# Altium schematic symbol library pporyzala-TI_Lighting.SchLib: 745 symbols (part 27 of 48)
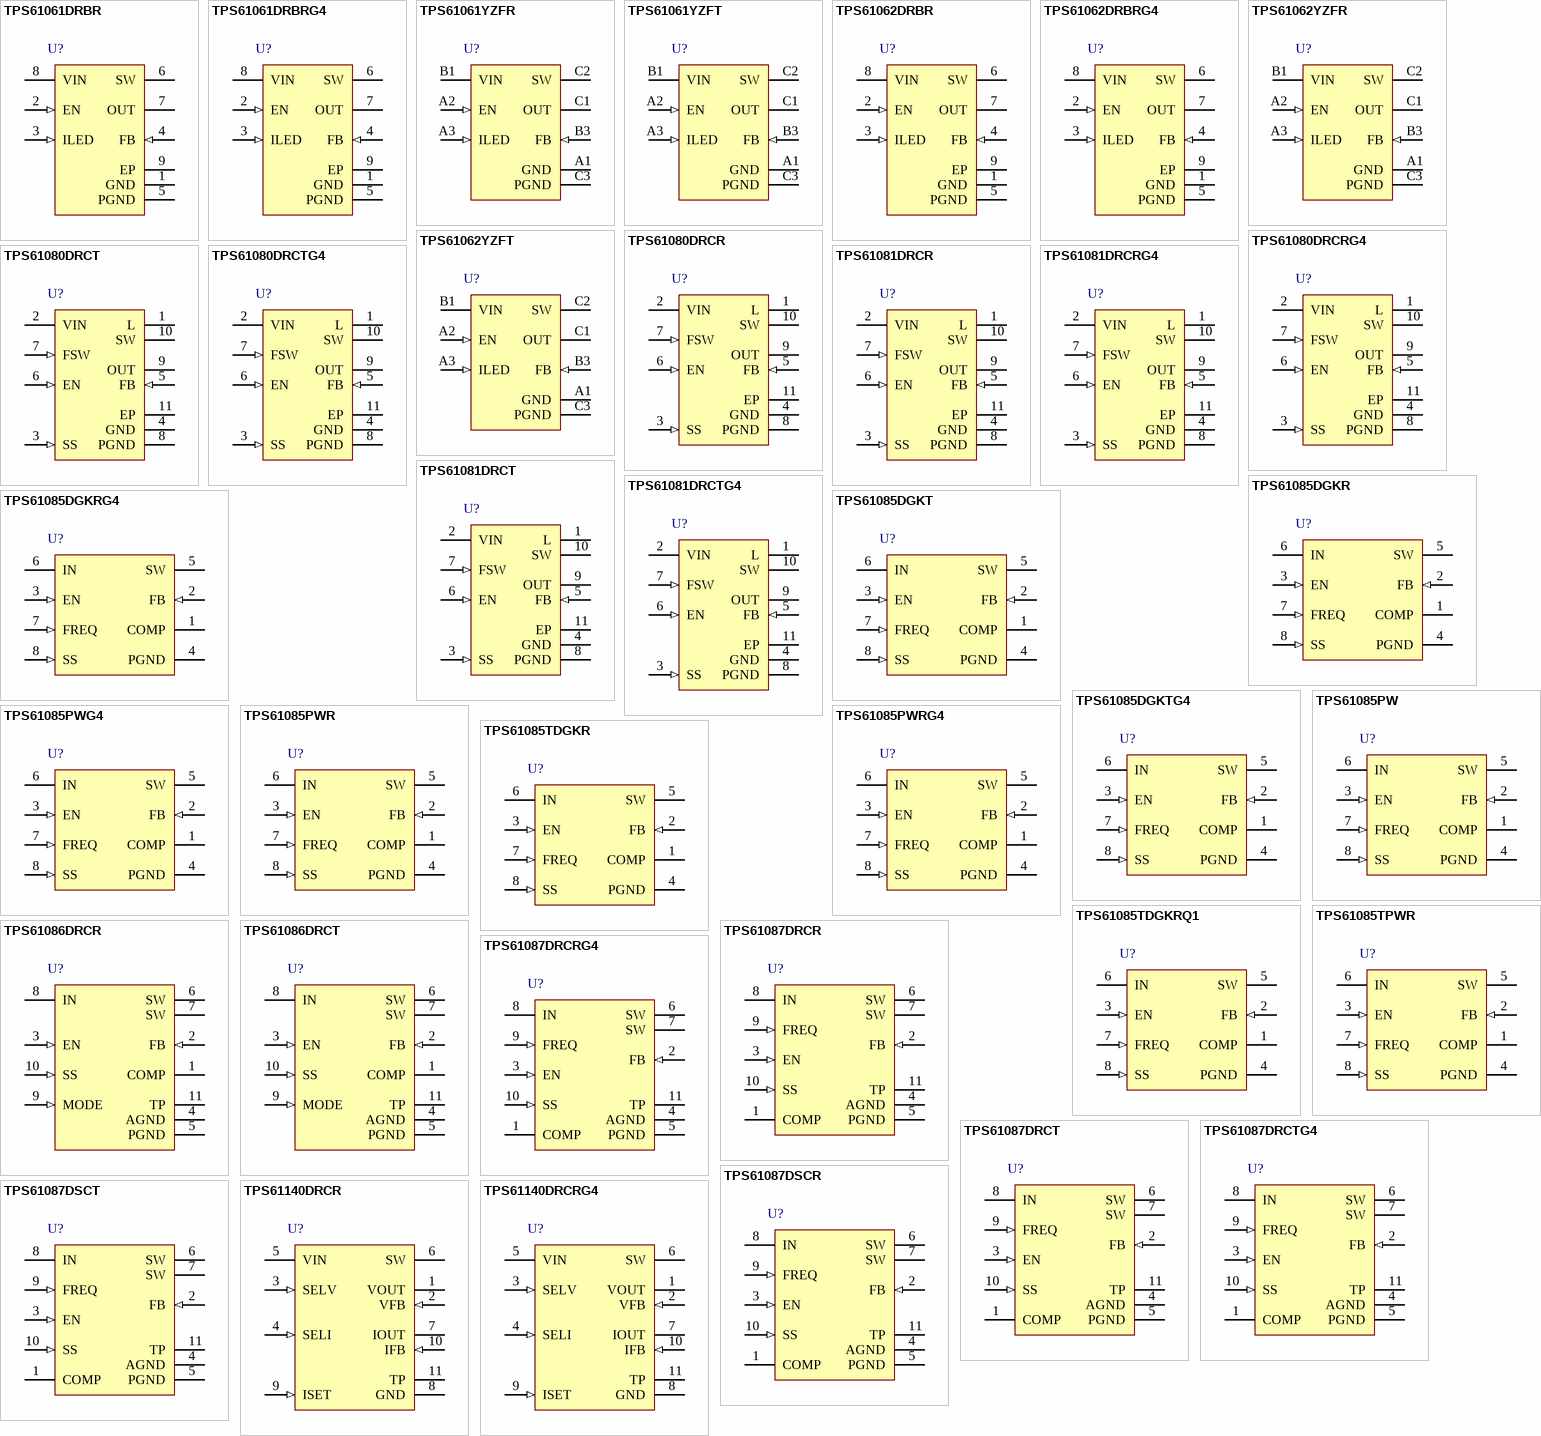
[diagram p57: symbols TPS61061DRBR to TPS61140DRCRG4]

## TPS61087DRCRG4
designator U?
18.5 V, 3.2 A, 650 KHz / 1.2 MHz Step-Up DC-DC Converter with Forced PWM Mode, 2.5 to 6 V, -40 to 85 degC, 10-pin SON (DRC10), Green (RoHS & no Sb/Br); Manufacturer: Texas Instruments; PartNumber: TPS61087DRCRG4; Iout(Max)(A): 3.2; Iq(Typ)(mA): 0.075; Rating: Catalog; SubFamily: White LED Driver; Switching Frequency(Typ)(kHz): 650, 1200; Topology: Boost; Vin(Max)(V): 6; Vin(Min)(V): 2.5; DatasheetVersion: SLVS821B; PackageVersion: 4204102-3/L; PackageReference: DRC10-2400X1650TP; PackageDescription: 10-Pin Plastic Small Outline, Body 3 x 3 mm, Pitch 0.5 mm; Supplier 1: Digi-Key; Supplier Part Number 1: TPS61087DRCRG4-ND; Supplier 2: Newark; Supplier Part Number 2: 03P5225; Supplier 3: Mouser; Supplier Part Number 3: 595-TPS61087DRCRG4; Eco-Plan: Green (RoHS & no Sb/Br); Mounting Technology: Surface Mount; ComponentLink1Description: Manufacturer URL; ComponentLink1URL: http://www.ti.com/; ComponentLink2Description: Datasheet; ComponentLink2URL: http://www.ti.com/general/docs/lit/getliterature.tsp?genericPartNumber=TPS61087&fileType=pdf; ComponentLink3Description: Package Specification; ComponentLink3URL: http://www.ti.com/litv/pdf/mpds117k
footprint TI-DRC10-2400X1650TP_V (SON, 10-Leads, Body 3x3mm, Pitch 0.5mm, Thermal Pad 3x1.65mm)
pins: 1 COMP "Compensation pin", 2 FB (in) "Feedback pin", 3 EN (in) "Shutdown control input. Connect this pin to logic high level to enable the device", 4 AGND (power) "Analog ground", 5 PGND (power) "Power ground", 6 SW (power) "Switch pin", 7 SW (power) "Switch pin", 8 IN (power) "Input supply pin", 9 FREQ (in) "Frequency select pin. The power switch operates at 650 kHz if FREQ is connected to GND and at 1.2 MHz if FREQ is connected to IN", 10 SS (in) "Soft-start control pin. Connect a capacitor to this pin if soft-start needed. Open = no soft-start", 11 TP (power) "Analog ground"

## TPS61087DRCT
designator U?
18.5 V, 3.2 A, 650 KHz / 1.2 MHz Step-Up DC-DC Converter with Forced PWM Mode, 2.5 to 6 V, -40 to 85 degC, 10-pin SON (DRC10), Green (RoHS & no Sb/Br); Manufacturer: Texas Instruments; PartNumber: TPS61087DRCT; Iout(Max)(A): 3.2; Iq(Typ)(mA): 0.075; Rating: Catalog; SubFamily: White LED Driver; Switching Frequency(Typ)(kHz): 650, 1200; Topology: Boost; Vin(Max)(V): 6; Vin(Min)(V): 2.5; DatasheetVersion: SLVS821B; PackageVersion: 4204102-3/L; PackageReference: DRC10-2400X1650TP; PackageDescription: 10-Pin Plastic Small Outline, Body 3 x 3 mm, Pitch 0.5 mm; Supplier 1: Digi-Key; Supplier Part Number 1: 296-23426-2-ND; Supplier 2: Digi-Key; Supplier Part Number 2: 296-23426-1-ND; Supplier 3: Digi-Key; Supplier Part Number 3: 296-23426-6-ND; Supplier 4: Farnell; Supplier Part Number 4: 1647915; Supplier 5: Newark; Supplier Part Number 5: 33P8376; Supplier 6: Newark; Supplier Part Number 6: 11N9844; Supplier 7: Mouser; Supplier Part Number 7: 595-TPS61087DRCT; Eco-Plan: Green (RoHS & no Sb/Br); Mounting Technology: Surface Mount; ComponentLink1Description: Manufacturer URL; ComponentLink1URL: http://www.ti.com/; ComponentLink2Description: Datasheet; ComponentLink2URL: http://www.ti.com/general/docs/lit/getliterature.tsp?genericPartNumber=TPS61087&fileType=pdf; ComponentLink3Description: Package Specification; ComponentLink3URL: http://www.ti.com/litv/pdf/mpds117k
footprint TI-DRC10-2400X1650TP_V (SON, 10-Leads, Body 3x3mm, Pitch 0.5mm, Thermal Pad 3x1.65mm)
pins: 1 COMP "Compensation pin", 2 FB (in) "Feedback pin", 3 EN (in) "Shutdown control input. Connect this pin to logic high level to enable the device", 4 AGND (power) "Analog ground", 5 PGND (power) "Power ground", 6 SW (power) "Switch pin", 7 SW (power) "Switch pin", 8 IN (power) "Input supply pin", 9 FREQ (in) "Frequency select pin. The power switch operates at 650 kHz if FREQ is connected to GND and at 1.2 MHz if FREQ is connected to IN", 10 SS (in) "Soft-start control pin. Connect a capacitor to this pin if soft-start needed. Open = no soft-start", 11 TP (power) "Analog ground"

## TPS61087DRCTG4
designator U?
18.5 V, 3.2 A, 650 KHz / 1.2 MHz Step-Up DC-DC Converter with Forced PWM Mode, 2.5 to 6 V, -40 to 85 degC, 10-pin SON (DRC10), Green (RoHS & no Sb/Br); Manufacturer: Texas Instruments; PartNumber: TPS61087DRCTG4; Iout(Max)(A): 3.2; Iq(Typ)(mA): 0.075; Rating: Catalog; SubFamily: White LED Driver; Switching Frequency(Typ)(kHz): 650, 1200; Topology: Boost; Vin(Max)(V): 6; Vin(Min)(V): 2.5; DatasheetVersion: SLVS821B; PackageVersion: 4204102-3/L; PackageReference: DRC10-2400X1650TP; PackageDescription: 10-Pin Plastic Small Outline, Body 3 x 3 mm, Pitch 0.5 mm; Supplier 1: Digi-Key; Supplier Part Number 1: TPS61087DRCTG4-ND; Supplier 2: Newark; Supplier Part Number 2: 03P5226; Supplier 3: Mouser; Supplier Part Number 3: 595-TPS61087DRCTG4; Eco-Plan: Green (RoHS & no Sb/Br); Mounting Technology: Surface Mount; ComponentLink1Description: Manufacturer URL; ComponentLink1URL: http://www.ti.com/; ComponentLink2Description: Datasheet; ComponentLink2URL: http://www.ti.com/general/docs/lit/getliterature.tsp?genericPartNumber=TPS61087&fileType=pdf; ComponentLink3Description: Package Specification; ComponentLink3URL: http://www.ti.com/litv/pdf/mpds117k
footprint TI-DRC10-2400X1650TP_V (SON, 10-Leads, Body 3x3mm, Pitch 0.5mm, Thermal Pad 3x1.65mm)
pins: 1 COMP "Compensation pin", 2 FB (in) "Feedback pin", 3 EN (in) "Shutdown control input. Connect this pin to logic high level to enable the device", 4 AGND (power) "Analog ground", 5 PGND (power) "Power ground", 6 SW (power) "Switch pin", 7 SW (power) "Switch pin", 8 IN (power) "Input supply pin", 9 FREQ (in) "Frequency select pin. The power switch operates at 650 kHz if FREQ is connected to GND and at 1.2 MHz if FREQ is connected to IN", 10 SS (in) "Soft-start control pin. Connect a capacitor to this pin if soft-start needed. Open = no soft-start", 11 TP (power) "Analog ground"

## TPS61087DSCR
designator U?
18.5 V, 3.2 A, 650 KHz / 1.2 MHz Step-Up DC-DC Converter with Forced PWM Mode, 2.5 to 6 V, -40 to 85 degC, 10-pin SON (DRC10), Green (RoHS & no Sb/Br); Manufacturer: Texas Instruments; PartNumber: TPS61087DSCR; Iout(Max)(A): 3.2; Iq(Typ)(mA): 0.075; Rating: Catalog; SubFamily: White LED Driver; Switching Frequency(Typ)(kHz): 650, 1200; Topology: Boost; Vin(Max)(V): 6; Vin(Min)(V): 2.5; DatasheetVersion: SLVS821B; PackageVersion: 4204102-3/L; PackageReference: DRC10-2400X1650TP; PackageDescription: 10-Pin Plastic Small Outline, Body 3 x 3 mm, Pitch 0.5 mm; Supplier 1: Digi-Key; Supplier Part Number 1: 296-27314-2-ND; Supplier 2: Digi-Key; Supplier Part Number 2: 296-27314-1-ND; Supplier 3: Digi-Key; Supplier Part Number 3: 296-27314-6-ND; Supplier 4: Newark; Supplier Part Number 4: 72R6646; Supplier 5: Mouser; Supplier Part Number 5: 595-TPS61087DSCR; Eco-Plan: Green (RoHS & no Sb/Br); Mounting Technology: Surface Mount; ComponentLink1Description: Manufacturer URL; ComponentLink1URL: http://www.ti.com/; ComponentLink2Description: Datasheet; ComponentLink2URL: http://www.ti.com/general/docs/lit/getliterature.tsp?genericPartNumber=TPS61087&fileType=pdf; ComponentLink3Description: Package Specification; ComponentLink3URL: http://www.ti.com/litv/pdf/mpds117k
footprint TI-DRC10-2400X1650TP_V (SON, 10-Leads, Body 3x3mm, Pitch 0.5mm, Thermal Pad 3x1.65mm)
pins: 1 COMP "Compensation pin", 2 FB (in) "Feedback pin", 3 EN (in) "Shutdown control input. Connect this pin to logic high level to enable the device", 4 AGND (power) "Analog ground", 5 PGND (power) "Power ground", 6 SW (power) "Switch pin", 7 SW (power) "Switch pin", 8 IN (power) "Input supply pin", 9 FREQ (in) "Frequency select pin. The power switch operates at 650 kHz if FREQ is connected to GND and at 1.2 MHz if FREQ is connected to IN", 10 SS (in) "Soft-start control pin. Connect a capacitor to this pin if soft-start needed. Open = no soft-start", 11 TP (power) "Analog ground"

## TPS61087DSCT
designator U?
18.5 V, 3.2 A, 650 KHz / 1.2 MHz Step-Up DC-DC Converter with Forced PWM Mode, 2.5 to 6 V, -40 to 85 degC, 10-pin SON (DRC10), Green (RoHS & no Sb/Br); Manufacturer: Texas Instruments; PartNumber: TPS61087DSCT; Iout(Max)(A): 3.2; Iq(Typ)(mA): 0.075; Rating: Catalog; SubFamily: White LED Driver; Switching Frequency(Typ)(kHz): 650, 1200; Topology: Boost; Vin(Max)(V): 6; Vin(Min)(V): 2.5; DatasheetVersion: SLVS821B; PackageVersion: 4204102-3/L; PackageReference: DRC10-2400X1650TP; PackageDescription: 10-Pin Plastic Small Outline, Body 3 x 3 mm, Pitch 0.5 mm; Supplier 1: Digi-Key; Supplier Part Number 1: 296-27242-2-ND; Supplier 2: Digi-Key; Supplier Part Number 2: 296-27242-1-ND; Supplier 3: Digi-Key; Supplier Part Number 3: 296-27242-6-ND; Supplier 4: Mouser; Supplier Part Number 4: 595-TPS61087DSCT; Eco-Plan: Green (RoHS & no Sb/Br); Mounting Technology: Surface Mount; ComponentLink1Description: Manufacturer URL; ComponentLink1URL: http://www.ti.com/; ComponentLink2Description: Datasheet; ComponentLink2URL: http://www.ti.com/general/docs/lit/getliterature.tsp?genericPartNumber=TPS61087&fileType=pdf; ComponentLink3Description: Package Specification; ComponentLink3URL: http://www.ti.com/litv/pdf/mpds117k
footprint TI-DRC10-2400X1650TP_V (SON, 10-Leads, Body 3x3mm, Pitch 0.5mm, Thermal Pad 3x1.65mm)
pins: 1 COMP "Compensation pin", 2 FB (in) "Feedback pin", 3 EN (in) "Shutdown control input. Connect this pin to logic high level to enable the device", 4 AGND (power) "Analog ground", 5 PGND (power) "Power ground", 6 SW (power) "Switch pin", 7 SW (power) "Switch pin", 8 IN (power) "Input supply pin", 9 FREQ (in) "Frequency select pin. The power switch operates at 650 kHz if FREQ is connected to GND and at 1.2 MHz if FREQ is connected to IN", 10 SS (in) "Soft-start control pin. Connect a capacitor to this pin if soft-start needed. Open = no soft-start", 11 TP (power) "Analog ground"

## TPS61140DRCR
designator U?
Dual Output Boost Regulator with SIngle Inductor, 2.5 to 6 V, -40 to 85 degC, 10-pin SON (DRC10), Green (RoHS & no Sb/Br); Manufacturer: Texas Instruments; PartNumber: TPS61140DRCR; Iout(Max)(A): 0.023; Iq(Typ)(mA): 0.125; Rating: Catalog; SubFamily: White LED Driver; Switching Frequency(Max)(kHz): 1200; Synchronous Rectification: TRUE; Vin(Max)(V): 6; Vin(Min)(V): 3; DatasheetVersion: SLVS624B; PackageVersion: 4204102-3/L; PackageReference: DRC10-2400X1650TP; PackageDescription: 10-Pin Plastic Small Outline, Body 3 x 3 mm, Pitch 0.5 mm; Supplier 1: Digi-Key; Supplier Part Number 1: 296-21159-2-ND; Supplier 2: Digi-Key; Supplier Part Number 2: 296-21159-1-ND; Supplier 3: Digi-Key; Supplier Part Number 3: 296-21159-6-ND; Supplier 4: Newark; Supplier Part Number 4: 80K6167; Supplier 5: Mouser; Supplier Part Number 5: 595-TPS61140DRCR; Eco-Plan: Green (RoHS & no Sb/Br); Topology: Boost; Mounting Technology: Surface Mount; ComponentLink1Description: Manufacturer URL; ComponentLink1URL: http://www.ti.com/; ComponentLink2Description: Datasheet; ComponentLink2URL: http://www.ti.com/general/docs/lit/getliterature.tsp?genericPartNumber=TPS61140&fileType=pdf; ComponentLink3Description: Package Specification; ComponentLink3URL: http://www.ti.com/litv/pdf/mpds117k
footprint TI-DRC10-2400X1650TP_V (SON, 10-Leads, Body 3x3mm, Pitch 0.5mm, Thermal Pad 3x1.65mm)
pins: 1 VOUT (power) "The output of the voltage regulator. There is a low dropout linear regulator (LDO) between the Iout and Vout pins which regulates the Vout voltage. Turning off the LDO disconnects the Vout from Iout.", 2 VFB (in) "The voltage feedback pin for Vout regulation. It is regulated to an internal reference voltage. An external voltage divider connected to this pin programs the output voltage.", 3 SELV (in) "Mode selection pins. See Table 1 for details", 4 SELI (in) "Mode selection pins. See Table 1 for details", 5 VIN (power) "The input pin to the IC. It provides the current to the boost regulator output, and also powers the IC circuit. When the Vin voltage is below the undervoltage lockout threshold, the IC turns off and disables outputs.", 6 SW (power) "This is the switching node of the IC where the PWM switching Is created.", 7 IOUT (power) "The output of the constant current supply. It is directly connected to the boost regulator output", 8 GND (power) "The ground of the IC. Connect the input and output capacitors very close to this pin.", 9 ISET (in) "The current output programming pin. The resistor connected to the pin programs the regulated current of the Iout pin.", 10 IFB (in) "The return path for the Iout regulation. The current regulator is connected to this pin, and it can be disabled by opening the current path.", 11 TP (power) "The thermal pad should be soldered to the analog ground. If possible, use thermal via to connect to ground plane for ideal power dissipation."

## TPS61140DRCRG4
designator U?
Dual Output Boost Regulator with SIngle Inductor, 2.5 to 6 V, -40 to 85 degC, 10-pin SON (DRC10), Green (RoHS & no Sb/Br); Manufacturer: Texas Instruments; PartNumber: TPS61140DRCRG4; Iout(Max)(A): 0.023; Iq(Typ)(mA): 0.125; Rating: Catalog; SubFamily: White LED Driver; Switching Frequency(Max)(kHz): 1200; Synchronous Rectification: TRUE; Vin(Max)(V): 6; Vin(Min)(V): 3; DatasheetVersion: SLVS624B; PackageVersion: 4204102-3/L; PackageReference: DRC10-2400X1650TP; PackageDescription: 10-Pin Plastic Small Outline, Body 3 x 3 mm, Pitch 0.5 mm; Supplier 1: Digi-Key; Supplier Part Number 1: TPS61140DRCRG4-ND; Supplier 2: Newark; Supplier Part Number 2: 81K4155; Supplier 3: Mouser; Supplier Part Number 3: 595-TPS61140DRCRG4; Eco-Plan: Green (RoHS & no Sb/Br); Topology: Boost; Mounting Technology: Surface Mount; ComponentLink1Description: Manufacturer URL; ComponentLink1URL: http://www.ti.com/; ComponentLink2Description: Datasheet; ComponentLink2URL: http://www.ti.com/general/docs/lit/getliterature.tsp?genericPartNumber=TPS61140&fileType=pdf; ComponentLink3Description: Package Specification; ComponentLink3URL: http://www.ti.com/litv/pdf/mpds117k
footprint TI-DRC10-2400X1650TP_V (SON, 10-Leads, Body 3x3mm, Pitch 0.5mm, Thermal Pad 3x1.65mm)
pins: 1 VOUT (power) "The output of the voltage regulator. There is a low dropout linear regulator (LDO) between the Iout and Vout pins which regulates the Vout voltage. Turning off the LDO disconnects the Vout from Iout.", 2 VFB (in) "The voltage feedback pin for Vout regulation. It is regulated to an internal reference voltage. An external voltage divider connected to this pin programs the output voltage.", 3 SELV (in) "Mode selection pins. See Table 1 for details", 4 SELI (in) "Mode selection pins. See Table 1 for details", 5 VIN (power) "The input pin to the IC. It provides the current to the boost regulator output, and also powers the IC circuit. When the Vin voltage is below the undervoltage lockout threshold, the IC turns off and disables outputs.", 6 SW (power) "This is the switching node of the IC where the PWM switching Is created.", 7 IOUT (power) "The output of the constant current supply. It is directly connected to the boost regulator output", 8 GND (power) "The ground of the IC. Connect the input and output capacitors very close to this pin.", 9 ISET (in) "The current output programming pin. The resistor connected to the pin programs the regulated current of the Iout pin.", 10 IFB (in) "The return path for the Iout regulation. The current regulator is connected to this pin, and it can be disabled by opening the current path.", 11 TP (power) "The thermal pad should be soldered to the analog ground. If possible, use thermal via to connect to ground plane for ideal power dissipation."

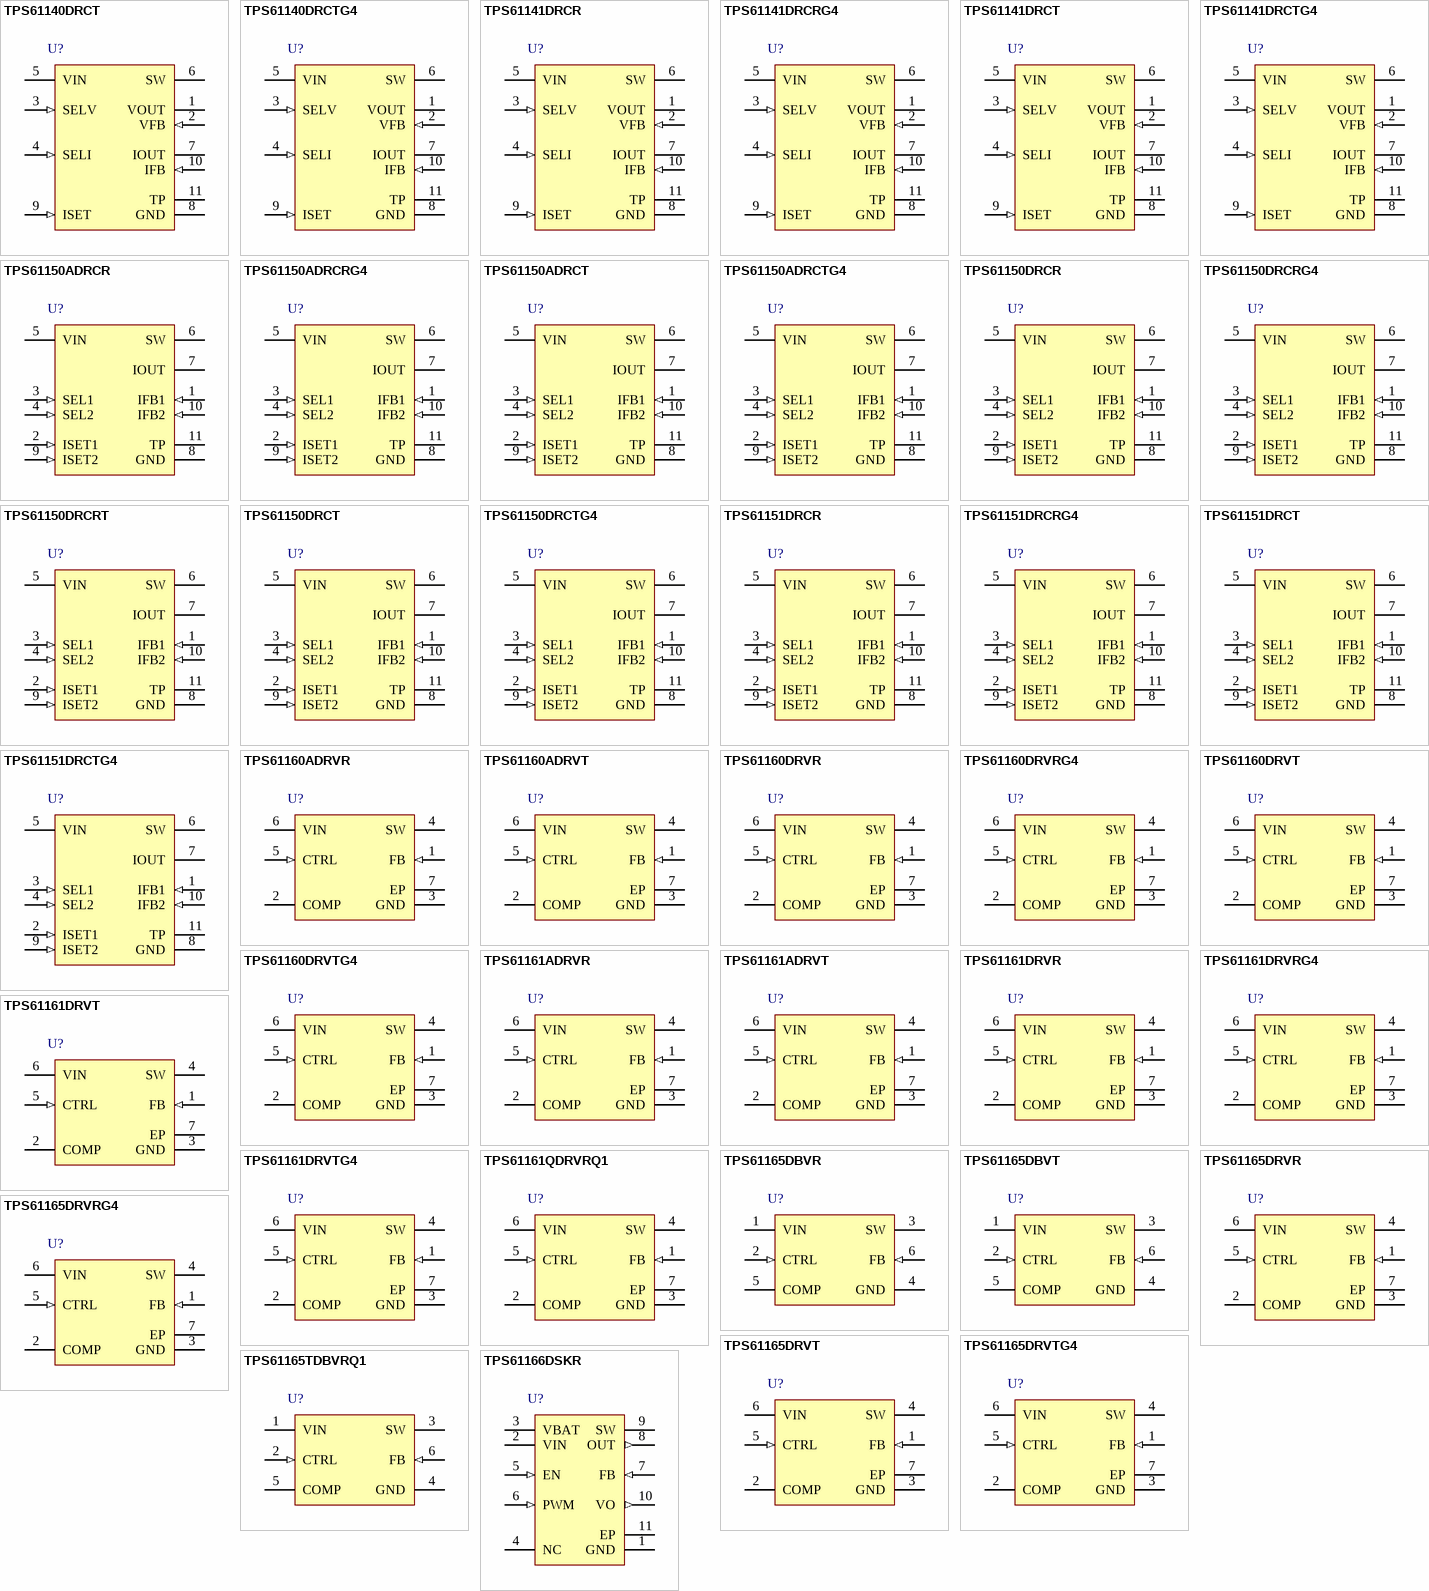
[diagram p18: symbols TPS61140DRCT to TPS61166DSKR]

## TPS61140DRCT
designator U?
Dual Output Boost Regulator with SIngle Inductor, 2.5 to 6 V, -40 to 85 degC, 10-pin SON (DRC10), Green (RoHS & no Sb/Br); Manufacturer: Texas Instruments; PartNumber: TPS61140DRCT; Iout(Max)(A): 0.023; Iq(Typ)(mA): 0.125; Rating: Catalog; SubFamily: White LED Driver; Switching Frequency(Max)(kHz): 1200; Synchronous Rectification: TRUE; Vin(Max)(V): 6; Vin(Min)(V): 3; DatasheetVersion: SLVS624B; PackageVersion: 4204102-3/L; PackageReference: DRC10-2400X1650TP; PackageDescription: 10-Pin Plastic Small Outline, Body 3 x 3 mm, Pitch 0.5 mm; Supplier 1: Digi-Key; Supplier Part Number 1: 296-24145-2-ND; Supplier 2: Digi-Key; Supplier Part Number 2: 296-24145-1-ND; Supplier 3: Digi-Key; Supplier Part Number 3: 296-24145-6-ND; Supplier 4: Newark; Supplier Part Number 4: 80K6168; Supplier 5: Mouser; Supplier Part Number 5: 595-TPS61140DRCT; Eco-Plan: Green (RoHS & no Sb/Br); Topology: Boost; Mounting Technology: Surface Mount; ComponentLink1Description: Manufacturer URL; ComponentLink1URL: http://www.ti.com/; ComponentLink2Description: Datasheet; ComponentLink2URL: http://www.ti.com/general/docs/lit/getliterature.tsp?genericPartNumber=TPS61140&fileType=pdf; ComponentLink3Description: Package Specification; ComponentLink3URL: http://www.ti.com/litv/pdf/mpds117k
footprint TI-DRC10-2400X1650TP_V (SON, 10-Leads, Body 3x3mm, Pitch 0.5mm, Thermal Pad 3x1.65mm)
pins: 1 VOUT (power) "The output of the voltage regulator. There is a low dropout linear regulator (LDO) between the Iout and Vout pins which regulates the Vout voltage. Turning off the LDO disconnects the Vout from Iout.", 2 VFB (in) "The voltage feedback pin for Vout regulation. It is regulated to an internal reference voltage. An external voltage divider connected to this pin programs the output voltage.", 3 SELV (in) "Mode selection pins. See Table 1 for details", 4 SELI (in) "Mode selection pins. See Table 1 for details", 5 VIN (power) "The input pin to the IC. It provides the current to the boost regulator output, and also powers the IC circuit. When the Vin voltage is below the undervoltage lockout threshold, the IC turns off and disables outputs.", 6 SW (power) "This is the switching node of the IC where the PWM switching Is created.", 7 IOUT (power) "The output of the constant current supply. It is directly connected to the boost regulator output", 8 GND (power) "The ground of the IC. Connect the input and output capacitors very close to this pin.", 9 ISET (in) "The current output programming pin. The resistor connected to the pin programs the regulated current of the Iout pin.", 10 IFB (in) "The return path for the Iout regulation. The current regulator is connected to this pin, and it can be disabled by opening the current path.", 11 TP (power) "The thermal pad should be soldered to the analog ground. If possible, use thermal via to connect to ground plane for ideal power dissipation."

## TPS61140DRCTG4
designator U?
Dual Output Boost Regulator with SIngle Inductor, 2.5 to 6 V, -40 to 85 degC, 10-pin SON (DRC10), Green (RoHS & no Sb/Br); Manufacturer: Texas Instruments; PartNumber: TPS61140DRCTG4; Iout(Max)(A): 0.023; Iq(Typ)(mA): 0.125; Rating: Catalog; SubFamily: White LED Driver; Switching Frequency(Max)(kHz): 1200; Synchronous Rectification: TRUE; Vin(Max)(V): 6; Vin(Min)(V): 3; DatasheetVersion: SLVS624B; PackageVersion: 4204102-3/L; PackageReference: DRC10-2400X1650TP; PackageDescription: 10-Pin Plastic Small Outline, Body 3 x 3 mm, Pitch 0.5 mm; Supplier 1: Digi-Key; Supplier Part Number 1: TPS61140DRCTG4-ND; Supplier 2: Newark; Supplier Part Number 2: 81K4156; Supplier 3: Mouser; Supplier Part Number 3: 595-TPS61140DRCTG4; Eco-Plan: Green (RoHS & no Sb/Br); Topology: Boost; Mounting Technology: Surface Mount; ComponentLink1Description: Manufacturer URL; ComponentLink1URL: http://www.ti.com/; ComponentLink2Description: Datasheet; ComponentLink2URL: http://www.ti.com/general/docs/lit/getliterature.tsp?genericPartNumber=TPS61140&fileType=pdf; ComponentLink3Description: Package Specification; ComponentLink3URL: http://www.ti.com/litv/pdf/mpds117k
footprint TI-DRC10-2400X1650TP_V (SON, 10-Leads, Body 3x3mm, Pitch 0.5mm, Thermal Pad 3x1.65mm)
pins: 1 VOUT (power) "The output of the voltage regulator. There is a low dropout linear regulator (LDO) between the Iout and Vout pins which regulates the Vout voltage. Turning off the LDO disconnects the Vout from Iout.", 2 VFB (in) "The voltage feedback pin for Vout regulation. It is regulated to an internal reference voltage. An external voltage divider connected to this pin programs the output voltage.", 3 SELV (in) "Mode selection pins. See Table 1 for details", 4 SELI (in) "Mode selection pins. See Table 1 for details", 5 VIN (power) "The input pin to the IC. It provides the current to the boost regulator output, and also powers the IC circuit. When the Vin voltage is below the undervoltage lockout threshold, the IC turns off and disables outputs.", 6 SW (power) "This is the switching node of the IC where the PWM switching Is created.", 7 IOUT (power) "The output of the constant current supply. It is directly connected to the boost regulator output", 8 GND (power) "The ground of the IC. Connect the input and output capacitors very close to this pin.", 9 ISET (in) "The current output programming pin. The resistor connected to the pin programs the regulated current of the Iout pin.", 10 IFB (in) "The return path for the Iout regulation. The current regulator is connected to this pin, and it can be disabled by opening the current path.", 11 TP (power) "The thermal pad should be soldered to the analog ground. If possible, use thermal via to connect to ground plane for ideal power dissipation."

## TPS61141DRCR
designator U?
Dual Output Boost Regulator with SIngle Inductor, 2.5 to 6 V, -40 to 85 degC, 10-pin SON (DRC10), Green (RoHS & no Sb/Br); Manufacturer: Texas Instruments; PartNumber: TPS61141DRCR; Iout(Max)(A): 0.023; Iq(Typ)(mA): 0.125; Rating: Catalog; SubFamily: White LED Driver; Switching Frequency(Max)(kHz): 1200; Synchronous Rectification: TRUE; Vin(Max)(V): 6; Vin(Min)(V): 2.5; DatasheetVersion: SLVS624B; PackageVersion: 4204102-3/L; PackageReference: DRC10-2400X1650TP; PackageDescription: 10-Pin Plastic Small Outline, Body 3 x 3 mm, Pitch 0.5 mm; Supplier 1: Digi-Key; Supplier Part Number 1: 296-21160-2-ND; Supplier 2: Digi-Key; Supplier Part Number 2: 296-21160-1-ND; Supplier 3: Digi-Key; Supplier Part Number 3: 296-21160-6-ND; Supplier 4: Newark; Supplier Part Number 4: 80K3413; Supplier 5: Mouser; Supplier Part Number 5: 595-TPS61141DRCR; Eco-Plan: Green (RoHS & no Sb/Br); Topology: Boost; Mounting Technology: Surface Mount; ComponentLink1Description: Manufacturer URL; ComponentLink1URL: http://www.ti.com/; ComponentLink2Description: Datasheet; ComponentLink2URL: http://www.ti.com/general/docs/lit/getliterature.tsp?genericPartNumber=TPS61141&fileType=pdf; ComponentLink3Description: Package Specification; ComponentLink3URL: http://www.ti.com/litv/pdf/mpds117k
footprint TI-DRC10-2400X1650TP_V (SON, 10-Leads, Body 3x3mm, Pitch 0.5mm, Thermal Pad 3x1.65mm)
pins: 1 VOUT (power) "The output of the voltage regulator. There is a low dropout linear regulator (LDO) between the Iout and Vout pins which regulates the Vout voltage. Turning off the LDO disconnects the Vout from Iout.", 2 VFB (in) "The voltage feedback pin for Vout regulation. It is regulated to an internal reference voltage. An external voltage divider connected to this pin programs the output voltage.", 3 SELV (in) "Mode selection pins.", 4 SELI (in) "Mode selection pins.", 5 VIN (power) "The input pin to the IC. It provides the current to the boost regulator output, and also powers the IC circuit. When the Vin voltage is below the undervoltage lockout threshold, the IC turns off and disables outputs.", 6 SW (power) "This is the switching node of the IC where the PWM switching Is created.", 7 IOUT (power) "The output of the constant current supply. It is directly connected to the boost regulator output.", 8 GND (power) "The ground of the IC. Connect the input and output capacitors very close to this pin.", 9 ISET (in) "The current output programming pin. The resistor connected to the pin programs the regulated current of the Iout pin.", 10 IFB (in) "The return path for the Iout regulation. The current regulator is connected to this pin, and it can be disabled by opening the current path.", 11 TP (power) "The thermal pad should be soldered to the analog ground. If possible, use thermal via to connect to ground plane for ideal power dissipation."

## TPS61141DRCRG4
designator U?
Dual Output Boost Regulator with SIngle Inductor, 2.5 to 6 V, -40 to 85 degC, 10-pin SON (DRC10), Green (RoHS & no Sb/Br); Manufacturer: Texas Instruments; PartNumber: TPS61141DRCRG4; Iout(Max)(A): 0.023; Iq(Typ)(mA): 0.125; Rating: Catalog; SubFamily: White LED Driver; Switching Frequency(Max)(kHz): 1200; Synchronous Rectification: TRUE; Vin(Max)(V): 6; Vin(Min)(V): 2.5; DatasheetVersion: SLVS624B; PackageVersion: 4204102-3/L; PackageReference: DRC10-2400X1650TP; PackageDescription: 10-Pin Plastic Small Outline, Body 3 x 3 mm, Pitch 0.5 mm; Supplier 1: Digi-Key; Supplier Part Number 1: TPS61141DRCRG4-ND; Supplier 2: Newark; Supplier Part Number 2: 81K4157; Supplier 3: Mouser; Supplier Part Number 3: 595-TPS61141DRCRG4; Eco-Plan: Green (RoHS & no Sb/Br); Topology: Boost; Mounting Technology: Surface Mount; ComponentLink1Description: Manufacturer URL; ComponentLink1URL: http://www.ti.com/; ComponentLink2Description: Datasheet; ComponentLink2URL: http://www.ti.com/general/docs/lit/getliterature.tsp?genericPartNumber=TPS61141&fileType=pdf; ComponentLink3Description: Package Specification; ComponentLink3URL: http://www.ti.com/litv/pdf/mpds117k
footprint TI-DRC10-2400X1650TP_V (SON, 10-Leads, Body 3x3mm, Pitch 0.5mm, Thermal Pad 3x1.65mm)
pins: 1 VOUT (power) "The output of the voltage regulator. There is a low dropout linear regulator (LDO) between the Iout and Vout pins which regulates the Vout voltage. Turning off the LDO disconnects the Vout from Iout.", 2 VFB (in) "The voltage feedback pin for Vout regulation. It is regulated to an internal reference voltage. An external voltage divider connected to this pin programs the output voltage.", 3 SELV (in) "Mode selection pins.", 4 SELI (in) "Mode selection pins.", 5 VIN (power) "The input pin to the IC. It provides the current to the boost regulator output, and also powers the IC circuit. When the Vin voltage is below the undervoltage lockout threshold, the IC turns off and disables outputs.", 6 SW (power) "This is the switching node of the IC where the PWM switching Is created.", 7 IOUT (power) "The output of the constant current supply. It is directly connected to the boost regulator output.", 8 GND (power) "The ground of the IC. Connect the input and output capacitors very close to this pin.", 9 ISET (in) "The current output programming pin. The resistor connected to the pin programs the regulated current of the Iout pin.", 10 IFB (in) "The return path for the Iout regulation. The current regulator is connected to this pin, and it can be disabled by opening the current path.", 11 TP (power) "The thermal pad should be soldered to the analog ground. If possible, use thermal via to connect to ground plane for ideal power dissipation."

## TPS61141DRCT
designator U?
Dual Output Boost Regulator with SIngle Inductor, 2.5 to 6 V, -40 to 85 degC, 10-pin SON (DRC10), Green (RoHS & no Sb/Br); Manufacturer: Texas Instruments; PartNumber: TPS61141DRCT; Iout(Max)(A): 0.023; Iq(Typ)(mA): 0.125; Rating: Catalog; SubFamily: White LED Driver; Switching Frequency(Max)(kHz): 1200; Synchronous Rectification: TRUE; Vin(Max)(V): 6; Vin(Min)(V): 2.5; DatasheetVersion: SLVS624B; PackageVersion: 4204102-3/L; PackageReference: DRC10-2400X1650TP; PackageDescription: 10-Pin Plastic Small Outline, Body 3 x 3 mm, Pitch 0.5 mm; Supplier 1: Digi-Key; Supplier Part Number 1: TPS61141DRCT-ND; Supplier 2: Newark; Supplier Part Number 2: 80K3414; Supplier 3: Mouser; Supplier Part Number 3: 595-TPS61141DRCT; Eco-Plan: Green (RoHS & no Sb/Br); Topology: Boost; Mounting Technology: Surface Mount; ComponentLink1Description: Manufacturer URL; ComponentLink1URL: http://www.ti.com/; ComponentLink2Description: Datasheet; ComponentLink2URL: http://www.ti.com/general/docs/lit/getliterature.tsp?genericPartNumber=TPS61141&fileType=pdf; ComponentLink3Description: Package Specification; ComponentLink3URL: http://www.ti.com/litv/pdf/mpds117k
footprint TI-DRC10-2400X1650TP_V (SON, 10-Leads, Body 3x3mm, Pitch 0.5mm, Thermal Pad 3x1.65mm)
pins: 1 VOUT (power) "The output of the voltage regulator. There is a low dropout linear regulator (LDO) between the Iout and Vout pins which regulates the Vout voltage. Turning off the LDO disconnects the Vout from Iout.", 2 VFB (in) "The voltage feedback pin for Vout regulation. It is regulated to an internal reference voltage. An external voltage divider connected to this pin programs the output voltage.", 3 SELV (in) "Mode selection pins.", 4 SELI (in) "Mode selection pins.", 5 VIN (power) "The input pin to the IC. It provides the current to the boost regulator output, and also powers the IC circuit. When the Vin voltage is below the undervoltage lockout threshold, the IC turns off and disables outputs.", 6 SW (power) "This is the switching node of the IC where the PWM switching Is created.", 7 IOUT (power) "The output of the constant current supply. It is directly connected to the boost regulator output.", 8 GND (power) "The ground of the IC. Connect the input and output capacitors very close to this pin.", 9 ISET (in) "The current output programming pin. The resistor connected to the pin programs the regulated current of the Iout pin.", 10 IFB (in) "The return path for the Iout regulation. The current regulator is connected to this pin, and it can be disabled by opening the current path.", 11 TP (power) "The thermal pad should be soldered to the analog ground. If possible, use thermal via to connect to ground plane for ideal power dissipation."

## TPS61141DRCTG4
designator U?
Dual Output Boost Regulator with SIngle Inductor, 2.5 to 6 V, -40 to 85 degC, 10-pin SON (DRC10), Green (RoHS & no Sb/Br); Manufacturer: Texas Instruments; PartNumber: TPS61141DRCTG4; Iout(Max)(A): 0.023; Iq(Typ)(mA): 0.125; Rating: Catalog; SubFamily: White LED Driver; Switching Frequency(Max)(kHz): 1200; Synchronous Rectification: TRUE; Vin(Max)(V): 6; Vin(Min)(V): 2.5; DatasheetVersion: SLVS624B; PackageVersion: 4204102-3/L; PackageReference: DRC10-2400X1650TP; PackageDescription: 10-Pin Plastic Small Outline, Body 3 x 3 mm, Pitch 0.5 mm; Supplier 1: Digi-Key; Supplier Part Number 1: TPS61141DRCTG4-ND; Supplier 2: Newark; Supplier Part Number 2: 81K4158; Supplier 3: Mouser; Supplier Part Number 3: 595-TPS61141DRCTG4; Eco-Plan: Green (RoHS & no Sb/Br); Topology: Boost; Mounting Technology: Surface Mount; ComponentLink1Description: Manufacturer URL; ComponentLink1URL: http://www.ti.com/; ComponentLink2Description: Datasheet; ComponentLink2URL: http://www.ti.com/general/docs/lit/getliterature.tsp?genericPartNumber=TPS61141&fileType=pdf; ComponentLink3Description: Package Specification; ComponentLink3URL: http://www.ti.com/litv/pdf/mpds117k
footprint TI-DRC10-2400X1650TP_V (SON, 10-Leads, Body 3x3mm, Pitch 0.5mm, Thermal Pad 3x1.65mm)
pins: 1 VOUT (power) "The output of the voltage regulator. There is a low dropout linear regulator (LDO) between the Iout and Vout pins which regulates the Vout voltage. Turning off the LDO disconnects the Vout from Iout.", 2 VFB (in) "The voltage feedback pin for Vout regulation. It is regulated to an internal reference voltage. An external voltage divider connected to this pin programs the output voltage.", 3 SELV (in) "Mode selection pins.", 4 SELI (in) "Mode selection pins.", 5 VIN (power) "The input pin to the IC. It provides the current to the boost regulator output, and also powers the IC circuit. When the Vin voltage is below the undervoltage lockout threshold, the IC turns off and disables outputs.", 6 SW (power) "This is the switching node of the IC where the PWM switching Is created.", 7 IOUT (power) "The output of the constant current supply. It is directly connected to the boost regulator output.", 8 GND (power) "The ground of the IC. Connect the input and output capacitors very close to this pin.", 9 ISET (in) "The current output programming pin. The resistor connected to the pin programs the regulated current of the Iout pin.", 10 IFB (in) "The return path for the Iout regulation. The current regulator is connected to this pin, and it can be disabled by opening the current path.", 11 TP (power) "The thermal pad should be soldered to the analog ground. If possible, use thermal via to connect to ground plane for ideal power dissipation."

## TPS61150ADRCR
designator U?
Dual Output Boost WLED Driver Using Single Inductor, 2.5 to 6 V, -40 to 85 degC, 10-pin SON (DRC10), Green (RoHS & no Sb/Br); Manufacturer: Texas Instruments; PartNumber: TPS61150ADRCR; Dimming: TRUE; Iout(Max)(A): 0.034; Iq(Typ)(mA): 2; Rating: Catalog; SubFamily: White LED Driver; Switching Frequency(Max)(kHz): 1200; Vin(Max)(V): 6; Vin(Min)(V): 2.5; DatasheetVersion: SLVS706; PackageVersion: 4204102-3/L; PackageReference: DRC10-2400X1650TP; PackageDescription: 10-Pin Plastic Small Outline, Body 3 x 3 mm, Pitch 0.5 mm; Supplier 1: Digi-Key; Supplier Part Number 1: 296-21273-2-ND; Supplier 2: Digi-Key; Supplier Part Number 2: 296-21273-1-ND; Supplier 3: Digi-Key; Supplier Part Number 3: 296-21273-6-ND; Supplier 4: Newark; Supplier Part Number 4: 22M1821; Supplier 5: Mouser; Supplier Part Number 5: 595-TPS61150ADRCR; Eco-Plan: Green (RoHS & no Sb/Br); Synchronous Rectification: TRUE; Topology: Boost; Mounting Technology: Surface Mount; ComponentLink1Description: Manufacturer URL; ComponentLink1URL: http://www.ti.com/; ComponentLink2Description: Datasheet; ComponentLink2URL: http://www.ti.com/general/docs/lit/getliterature.tsp?genericPartNumber=TPS61150A&fileType=pdf; ComponentLink3Description: Package Specification; ComponentLink3URL: http://www.ti.com/litv/pdf/mpds117k
footprint TI-DRC10-2400X1650TP_V (SON, 10-Leads, Body 3x3mm, Pitch 0.5mm, Thermal Pad 3x1.65mm)
pins: 1 IFB1 (in) "Return path for the IOUT regulation. The current regulator is connected to this pin, and it can be disabled to open the current path.", 2 ISET1 (in) "Output current programming. The resistor connected to the pin programs the corresponding output current", 3 SEL1 (in) "Mode selection. See Table 1 for details", 4 SEL2 (in) "Mode selection. See Table 1 for details", 5 VIN (power) "Input pin. VIN provides the current to the boost power stage, and also powers the IC circuit. When VIN is below the undervoltage lockout threshold, the IC turns off and disables outputs; thereby disconnecting the WLEDs from (See Datasheet)", 6 SW (power) "Switching node of the IC.", 7 IOUT (power) "Constant current supply output. IOUT is directly connected to the boost converter output.", 8 GND (power) "Ground. Connect the input and output capacitors as close as possible to this pin.", 9 ISET2 (in) "Output current programming. The resistor connected to the pin programs the corresponding output current", 10 IFB2 (in) "Return path for the IOUT regulation. The current regulator is connected to this pin, and it can be disabled to open the current path.", 11 TP (power) "The thermal pad should be soldered to the analog ground. If possible, use the thermal pad to connect to ground plane for ideal power dissipation."

## TPS61150ADRCRG4
designator U?
Dual Output Boost WLED Driver Using Single Inductor, 2.5 to 6 V, -40 to 85 degC, 10-pin SON (DRC10), Green (RoHS & no Sb/Br); Manufacturer: Texas Instruments; PartNumber: TPS61150ADRCRG4; Dimming: TRUE; Iout(Max)(A): 0.034; Iq(Typ)(mA): 2; Rating: Catalog; SubFamily: White LED Driver; Switching Frequency(Max)(kHz): 1200; Vin(Max)(V): 6; Vin(Min)(V): 2.5; DatasheetVersion: SLVS706; PackageVersion: 4204102-3/L; PackageReference: DRC10-2400X1650TP; PackageDescription: 10-Pin Plastic Small Outline, Body 3 x 3 mm, Pitch 0.5 mm; Supplier 1: Digi-Key; Supplier Part Number 1: TPS61150ADRCRG4-ND; Supplier 2: Mouser; Supplier Part Number 2: 595-TPS61150ADRCRG4; Eco-Plan: Green (RoHS & no Sb/Br); Synchronous Rectification: TRUE; Topology: Boost; Mounting Technology: Surface Mount; ComponentLink1Description: Manufacturer URL; ComponentLink1URL: http://www.ti.com/; ComponentLink2Description: Datasheet; ComponentLink2URL: http://www.ti.com/general/docs/lit/getliterature.tsp?genericPartNumber=TPS61150A&fileType=pdf; ComponentLink3Description: Package Specification; ComponentLink3URL: http://www.ti.com/litv/pdf/mpds117k
footprint TI-DRC10-2400X1650TP_V (SON, 10-Leads, Body 3x3mm, Pitch 0.5mm, Thermal Pad 3x1.65mm)
pins: 1 IFB1 (in) "Return path for the IOUT regulation. The current regulator is connected to this pin, and it can be disabled to open the current path.", 2 ISET1 (in) "Output current programming. The resistor connected to the pin programs the corresponding output current", 3 SEL1 (in) "Mode selection. See Table 1 for details", 4 SEL2 (in) "Mode selection. See Table 1 for details", 5 VIN (power) "Input pin. VIN provides the current to the boost power stage, and also powers the IC circuit. When VIN is below the undervoltage lockout threshold, the IC turns off and disables outputs; thereby disconnecting the WLEDs from (See Datasheet)", 6 SW (power) "Switching node of the IC.", 7 IOUT (power) "Constant current supply output. IOUT is directly connected to the boost converter output.", 8 GND (power) "Ground. Connect the input and output capacitors as close as possible to this pin.", 9 ISET2 (in) "Output current programming. The resistor connected to the pin programs the corresponding output current", 10 IFB2 (in) "Return path for the IOUT regulation. The current regulator is connected to this pin, and it can be disabled to open the current path.", 11 TP (power) "The thermal pad should be soldered to the analog ground. If possible, use the thermal pad to connect to ground plane for ideal power dissipation."

## TPS61150ADRCT
designator U?
Dual Output Boost WLED Driver Using Single Inductor, 2.5 to 6 V, -40 to 85 degC, 10-pin SON (DRC10), Green (RoHS & no Sb/Br); Manufacturer: Texas Instruments; PartNumber: TPS61150ADRCT; Dimming: TRUE; Iout(Max)(A): 0.034; Iq(Typ)(mA): 2; Rating: Catalog; SubFamily: White LED Driver; Switching Frequency(Max)(kHz): 1200; Vin(Max)(V): 6; Vin(Min)(V): 2.5; DatasheetVersion: SLVS706; PackageVersion: 4204102-3/L; PackageReference: DRC10-2400X1650TP; PackageDescription: 10-Pin Plastic Small Outline, Body 3 x 3 mm, Pitch 0.5 mm; Supplier 1: Digi-Key; Supplier Part Number 1: TPS61150ADRCT-ND; Supplier 2: Farnell; Supplier Part Number 2: 1647812RL; Supplier 3: Farnell; Supplier Part Number 3: 1647812; Supplier 4: Newark; Supplier Part Number 4: 22M1822; Supplier 5: Mouser; Supplier Part Number 5: 595-TPS61150ADRCT; Eco-Plan: Green (RoHS & no Sb/Br); Synchronous Rectification: TRUE; Topology: Boost; Mounting Technology: Surface Mount; ComponentLink1Description: Manufacturer URL; ComponentLink1URL: http://www.ti.com/; ComponentLink2Description: Datasheet; ComponentLink2URL: http://www.ti.com/general/docs/lit/getliterature.tsp?genericPartNumber=TPS61150A&fileType=pdf; ComponentLink3Description: Package Specification; ComponentLink3URL: http://www.ti.com/litv/pdf/mpds117k
footprint TI-DRC10-2400X1650TP_V (SON, 10-Leads, Body 3x3mm, Pitch 0.5mm, Thermal Pad 3x1.65mm)
pins: 1 IFB1 (in) "Return path for the IOUT regulation. The current regulator is connected to this pin, and it can be disabled to open the current path.", 2 ISET1 (in) "Output current programming. The resistor connected to the pin programs the corresponding output current", 3 SEL1 (in) "Mode selection. See Table 1 for details", 4 SEL2 (in) "Mode selection. See Table 1 for details", 5 VIN (power) "Input pin. VIN provides the current to the boost power stage, and also powers the IC circuit. When VIN is below the undervoltage lockout threshold, the IC turns off and disables outputs; thereby disconnecting the WLEDs from (See Datasheet)", 6 SW (power) "Switching node of the IC.", 7 IOUT (power) "Constant current supply output. IOUT is directly connected to the boost converter output.", 8 GND (power) "Ground. Connect the input and output capacitors as close as possible to this pin.", 9 ISET2 (in) "Output current programming. The resistor connected to the pin programs the corresponding output current", 10 IFB2 (in) "Return path for the IOUT regulation. The current regulator is connected to this pin, and it can be disabled to open the current path.", 11 TP (power) "The thermal pad should be soldered to the analog ground. If possible, use the thermal pad to connect to ground plane for ideal power dissipation."

## TPS61150ADRCTG4
designator U?
Dual Output Boost WLED Driver Using Single Inductor, 2.5 to 6 V, -40 to 85 degC, 10-pin SON (DRC10), Green (RoHS & no Sb/Br); Manufacturer: Texas Instruments; PartNumber: TPS61150ADRCTG4; Dimming: TRUE; Iout(Max)(A): 0.034; Iq(Typ)(mA): 2; Rating: Catalog; SubFamily: White LED Driver; Switching Frequency(Max)(kHz): 1200; Vin(Max)(V): 6; Vin(Min)(V): 2.5; DatasheetVersion: SLVS706; PackageVersion: 4204102-3/L; PackageReference: DRC10-2400X1650TP; PackageDescription: 10-Pin Plastic Small Outline, Body 3 x 3 mm, Pitch 0.5 mm; Supplier 1: Digi-Key; Supplier Part Number 1: TPS61150ADRCTG4-ND; Supplier 2: Mouser; Supplier Part Number 2: 595-TPS61150ADRCTG4; Eco-Plan: Green (RoHS & no Sb/Br); Synchronous Rectification: TRUE; Topology: Boost; Mounting Technology: Surface Mount; ComponentLink1Description: Manufacturer URL; ComponentLink1URL: http://www.ti.com/; ComponentLink2Description: Datasheet; ComponentLink2URL: http://www.ti.com/general/docs/lit/getliterature.tsp?genericPartNumber=TPS61150A&fileType=pdf; ComponentLink3Description: Package Specification; ComponentLink3URL: http://www.ti.com/litv/pdf/mpds117k
footprint TI-DRC10-2400X1650TP_V (SON, 10-Leads, Body 3x3mm, Pitch 0.5mm, Thermal Pad 3x1.65mm)
pins: 1 IFB1 (in) "Return path for the IOUT regulation. The current regulator is connected to this pin, and it can be disabled to open the current path.", 2 ISET1 (in) "Output current programming. The resistor connected to the pin programs the corresponding output current", 3 SEL1 (in) "Mode selection. See Table 1 for details", 4 SEL2 (in) "Mode selection. See Table 1 for details", 5 VIN (power) "Input pin. VIN provides the current to the boost power stage, and also powers the IC circuit. When VIN is below the undervoltage lockout threshold, the IC turns off and disables outputs; thereby disconnecting the WLEDs from (See Datasheet)", 6 SW (power) "Switching node of the IC.", 7 IOUT (power) "Constant current supply output. IOUT is directly connected to the boost converter output.", 8 GND (power) "Ground. Connect the input and output capacitors as close as possible to this pin.", 9 ISET2 (in) "Output current programming. The resistor connected to the pin programs the corresponding output current", 10 IFB2 (in) "Return path for the IOUT regulation. The current regulator is connected to this pin, and it can be disabled to open the current path.", 11 TP (power) "The thermal pad should be soldered to the analog ground. If possible, use the thermal pad to connect to ground plane for ideal power dissipation."

## TPS61150DRCR
designator U?
Dual Output Boost Regulator with Single Inductor, 2.5 to 6 V, -40 to 85 degC, 10-pin SON (DRC10), Green (RoHS & no Sb/Br); Manufacturer: Texas Instruments; PartNumber: TPS61150DRCR; Iout(Max)(A): 0.035; Iq(Typ)(mA): 2; Rating: Catalog; SubFamily: White LED Driver; Switching Frequency(Max)(kHz): 1200; Synchronous Rectification: TRUE; Vin(Max)(V): 6; Vin(Min)(V): 2.5; DatasheetVersion: SLVS625D; PackageVersion: 4204102-3/L; PackageReference: DRC10-2400X1650TP; PackageDescription: 10-Pin Plastic Small Outline, Body 3 x 3 mm, Pitch 0.5 mm; Supplier 1: Digi-Key; Supplier Part Number 1: 296-21161-2-ND; Supplier 2: Digi-Key; Supplier Part Number 2: 296-21161-1-ND; Supplier 3: Digi-Key; Supplier Part Number 3: 296-21161-6-ND; Supplier 4: Newark; Supplier Part Number 4: 80K6169; Supplier 5: Mouser; Supplier Part Number 5: 595-TPS61150DRCR; Eco-Plan: Green (RoHS & no Sb/Br); Topology: Boost; Mounting Technology: Surface Mount; ComponentLink1Description: Manufacturer URL; ComponentLink1URL: http://www.ti.com/; ComponentLink2Description: Datasheet; ComponentLink2URL: http://www.ti.com/general/docs/lit/getliterature.tsp?genericPartNumber=TPS61150&fileType=pdf; ComponentLink3Description: Package Specification; ComponentLink3URL: http://www.ti.com/litv/pdf/mpds117k
footprint TI-DRC10-2400X1650TP_V (SON, 10-Leads, Body 3x3mm, Pitch 0.5mm, Thermal Pad 3x1.65mm)
pins: 1 IFB1 (in) "The return path for the Iout regulation. Current regulator is connected to this pin, and it can be disabled to open the current path.", 2 ISET1 (in) "Output current programming pin. The resistor connected to the pin programs its corresponding output current.", 3 SEL1 (in) "Mode selection pins. See Table 1 for details.", 4 SEL2 (in) "Mode selection pins. See Table 1 for details.", 5 VIN (power) "The input pin to the IC. It provides the current to the boost power stage, and also powers the IC circuit. When Vin is below the undervoltage lockout threshold, the IC turns off and disables outputs; thereby disconnecting (See Datasheet)", 6 SW (power) "This is the switching node of the IC.", 7 IOUT (power) "The output of the constant current supply. It is directly connected to the boost converter output.", 8 GND (power) "The ground of the IC. Connect the input and output capacitors very close to this pin.", 9 ISET2 (in) "Output current programming pin. The resistor connected to the pin programs its corresponding output current.", 10 IFB2 (in) "The return path for the Iout regulation. Current regulator is connected to this pin, and it can be disabled to open the current path.", 11 TP (power) "The thermal pad should be soldered to the analog ground. If possible, use thermal via to connect to ground plane for ideal power dissipation."

## TPS61150DRCRG4
designator U?
Dual Output Boost Regulator with Single Inductor, 2.5 to 6 V, -40 to 85 degC, 10-pin SON (DRC10), Green (RoHS & no Sb/Br); Manufacturer: Texas Instruments; PartNumber: TPS61150DRCRG4; Iout(Max)(A): 0.035; Iq(Typ)(mA): 2; Rating: Catalog; SubFamily: White LED Driver; Switching Frequency(Max)(kHz): 1200; Synchronous Rectification: TRUE; Vin(Max)(V): 6; Vin(Min)(V): 2.5; DatasheetVersion: SLVS625D; PackageVersion: 4204102-3/L; PackageReference: DRC10-2400X1650TP; PackageDescription: 10-Pin Plastic Small Outline, Body 3 x 3 mm, Pitch 0.5 mm; Supplier 1: Digi-Key; Supplier Part Number 1: TPS61150DRCRG4-ND; Supplier 2: Mouser; Supplier Part Number 2: 595-TPS61150DRCRG4; Eco-Plan: Green (RoHS & no Sb/Br); Topology: Boost; Mounting Technology: Surface Mount; ComponentLink1Description: Manufacturer URL; ComponentLink1URL: http://www.ti.com/; ComponentLink2Description: Datasheet; ComponentLink2URL: http://www.ti.com/general/docs/lit/getliterature.tsp?genericPartNumber=TPS61150&fileType=pdf; ComponentLink3Description: Package Specification; ComponentLink3URL: http://www.ti.com/litv/pdf/mpds117k
footprint TI-DRC10-2400X1650TP_V (SON, 10-Leads, Body 3x3mm, Pitch 0.5mm, Thermal Pad 3x1.65mm)
pins: 1 IFB1 (in) "The return path for the Iout regulation. Current regulator is connected to this pin, and it can be disabled to open the current path.", 2 ISET1 (in) "Output current programming pin. The resistor connected to the pin programs its corresponding output current.", 3 SEL1 (in) "Mode selection pins. See Table 1 for details.", 4 SEL2 (in) "Mode selection pins. See Table 1 for details.", 5 VIN (power) "The input pin to the IC. It provides the current to the boost power stage, and also powers the IC circuit. When Vin is below the undervoltage lockout threshold, the IC turns off and disables outputs; thereby disconnecting (See Datasheet)", 6 SW (power) "This is the switching node of the IC.", 7 IOUT (power) "The output of the constant current supply. It is directly connected to the boost converter output.", 8 GND (power) "The ground of the IC. Connect the input and output capacitors very close to this pin.", 9 ISET2 (in) "Output current programming pin. The resistor connected to the pin programs its corresponding output current.", 10 IFB2 (in) "The return path for the Iout regulation. Current regulator is connected to this pin, and it can be disabled to open the current path.", 11 TP (power) "The thermal pad should be soldered to the analog ground. If possible, use thermal via to connect to ground plane for ideal power dissipation."